# Altium footprint library CAPC3225X205N.PCBLIB: 1 footprints
Each footprint in its own frame and in the unit in brackets; x right, y up, seen from the top. Pads: shape width x height; smd on the part's side, far side on the other; paste and mask are expansions set on the pad; w line width, h text height; cw(c..) or ccw(c..) is an arc to the next point about the centre after c.
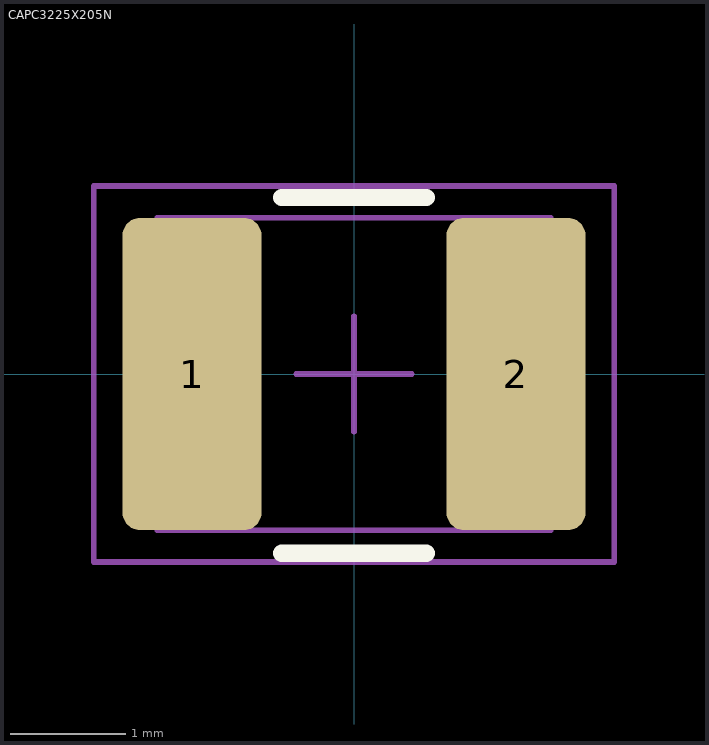
[diagram p0: the footprint, top view; thin cyan lines are the x and y axes]

## CAPC3225X205N [mm]
pads (2):
  rrect25% 1.2x2.7 smd paste+0: 1(-1.4,0) 2(1.4,0)
Top Overlay:
  lines w0.15: -0.625,-1.55 0.625,-1.55 ; -0.625,1.525 0.625,1.525
Top Component Outline:
  lines w0.001: -1.7,-1.35 1.7,-1.35 1.7,1.35 -1.7,1.35 -1.7,-1.35
  lines w0.05: -1.7,-1.35 1.7,-1.35 1.7,1.35 -1.7,1.35 -1.7,-1.35
Top Courtyard:
  lines w0.05: -0.5,0 0.5,0 ; 0,-0.5 0,0.5 ; -2.25,-1.625 2.25,-1.625 2.25,1.625 -2.25,1.625 -2.25,-1.625
3D body: height 2.7, standoff 0.05, extent 0.95,-1.35 1.7,1.35
3D body: height 2.7, standoff 0.05, extent -0.95,-1.35 0.95,1.35
3D body: height 2.7, standoff 0.05, extent -1.7,-1.35 -0.95,1.35